# EAGLE library part TPS61023DRLR (library pimoroni-ics)
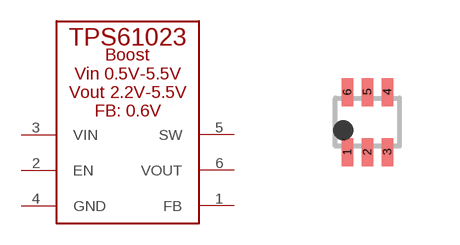
[diagram p132: symbol with the pads of SOT563-ORI; footprint SOT563-ORI]

Designator prefix U

## TPS61023DRLR  [SOT563-ORI]
1  FB
2  EN
3  VIN
4  GND
5  SW
6  VOUT

## Footprint SOT563-ORI (pad centres in mm)
smd 0.3 x 0.7: 1 -0.5,-0.75; 2 0,-0.75; 3 0.5,-0.75; 4 0.5,0.75; 5 0,0.75; 6 -0.5,0.75